# Altium footprint library Base.PcbLib: 12 footprints
Each footprint in its own frame and in the unit in brackets; x right, y up, seen from the top. Pads: shape width x height; smd on the part's side, far side on the other; paste and mask are expansions set on the pad; w line width, h text height; cw(c..) or ccw(c..) is an arc to the next point about the centre after c.
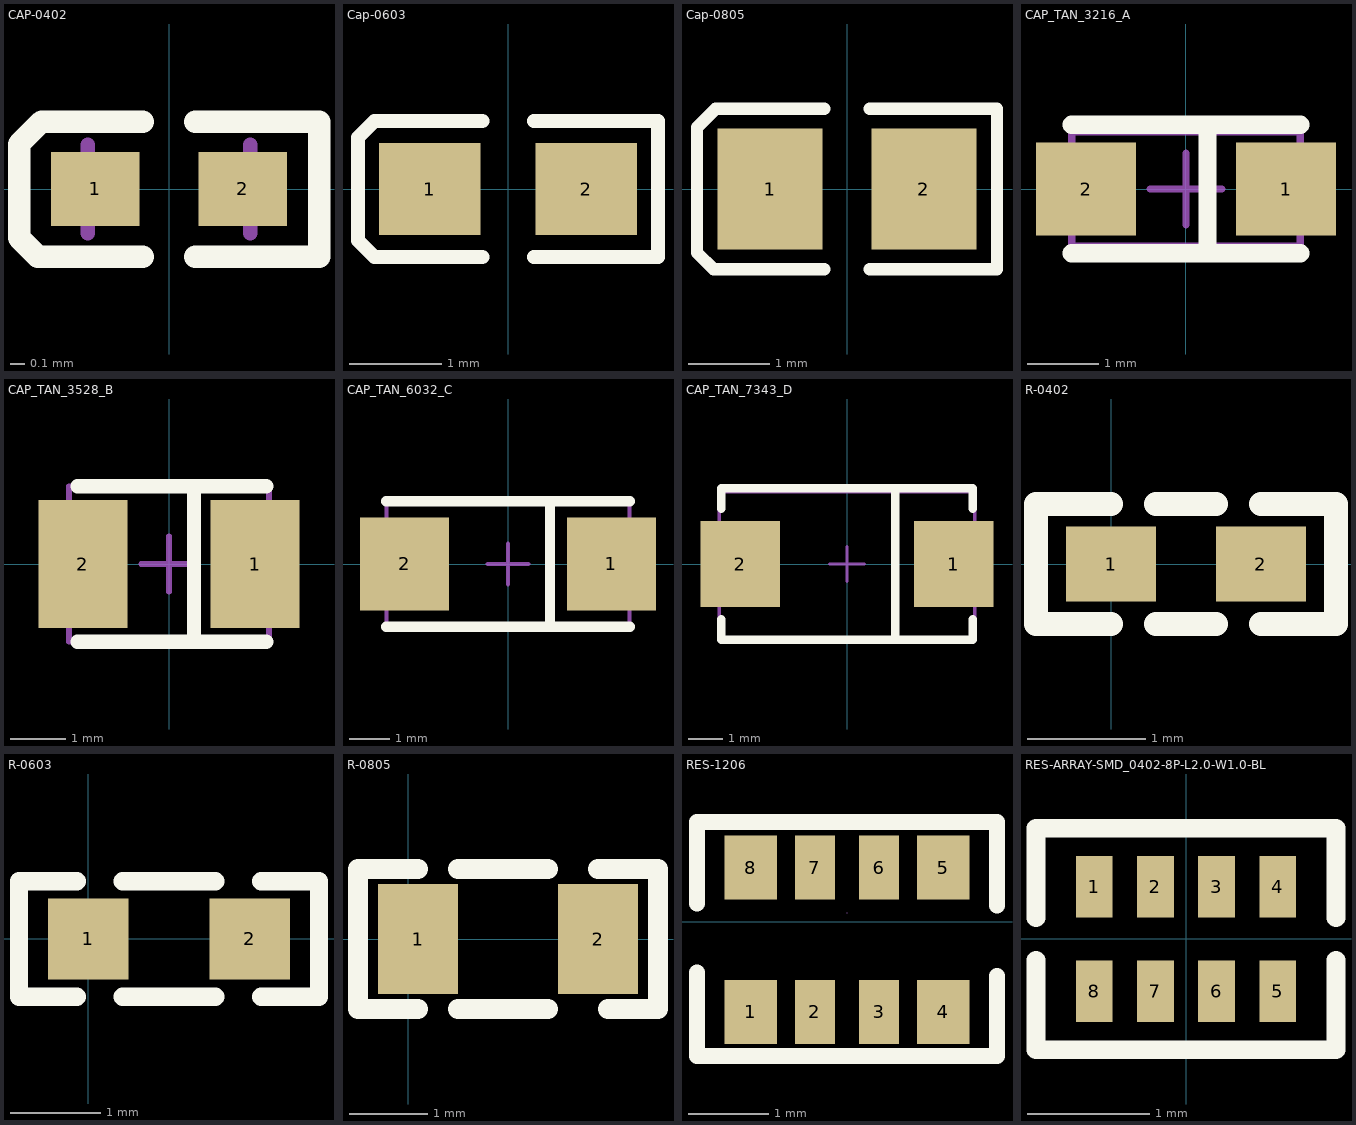
[diagram p0: the footprints below, top view; thin cyan lines are the x and y axes]

## CAP-0402 [mm]
height 1.3
pads (2):
  rect 0.6x0.5 smd: 1(-0.5,0) 2(0.5,0)
Top Overlay:
  lines w0.152: -0.178,-0.457 -0.889,-0.457 -1.016,-0.33 -1.016,0.305 -0.864,0.457 -0.178,0.457 ; 0.178,-0.457 1.016,-0.457 1.016,0.457 0.178,0.457
Mechanical 13:
  lines w0.1: -0.55,-0.3 -0.55,0.3 ; 0.55,-0.3 0.55,0.3
3D body "CAPC1005(0402).STEP": height 0.5, standoff 0, extent -0.5,-0.25 0.5,0.25

## Cap-0603 [mm]
height 0.6
pads (2):
  rect 1.1x1 smd: 1(-0.85,0) 2(0.85,0)
Top Overlay:
  lines w0.152: -0.279,-0.737 -1.448,-0.737 -1.626,-0.559 -1.626,0.559 -1.448,0.737 -0.279,0.737 ; 0.279,-0.737 1.626,-0.737 1.626,0.737 0.279,0.737
3D body "CAPC1608(0603).STEP": height 0.6, standoff 0, extent -0.8,-0.4 0.8,0.4

## Cap-0805 [mm]
height 1
pads (2):
  rect 1.3x1.5 smd: 1(-0.95,0) 2(0.95,0)
Top Overlay:
  lines w0.152: -0.279,-0.991 -1.651,-0.991 -1.854,-0.787 -1.854,0.762 -1.626,0.991 -0.279,0.991 ; 0.279,-0.991 1.854,-0.991 1.854,0.991 0.279,0.991
3D body "CAPC2012(0805).STEP": height 0.95, standoff 0, extent -1,-0.6 1,0.6

## CAP_TAN_3216_A [mm]
pads (2):
  rect 1.4x1.3 smd: 1(1.4,0) 2(-1.4,0)
Top Overlay:
  lines w0.254: -1.6,-0.9 1.6,-0.9 ; -1.6,0.9 1.6,0.9 ; 0.3,-0.9 0.3,0.9
Mechanical 15:
  lines w0.1: -0.5,0 0.5,0 ; 0,-0.5 0,0.5 ; -1.6,-0.8 1.6,-0.8 1.6,0.8 -1.6,0.8 -1.6,-0.8
3D body "CAP-A.STEP": height 1.6, standoff 0, extent -1.6,-0.8 1.6,0.8

## CAP_TAN_3528_B [mm]
pads (2):
  rect 1.6x2.3 smd: 1(1.55,0) 2(-1.55,0)
Top Overlay:
  lines w0.254: -1.65,-1.4 1.75,-1.4 ; -1.65,1.4 1.75,1.4 ; 0.45,-1.4 0.45,1.4
Mechanical 15:
  lines w0.1: -0.5,0 0.5,0 ; 0,-0.5 0,0.5 ; -1.8,-1.4 -1.8,1.4 1.8,1.4 1.8,-1.4 -1.8,-1.4
3D body "CAP-B.STEP": height 1.9, standoff 0, extent -1.75,-1.4 1.75,1.4

## CAP_TAN_6032_C [mm]
pads (2):
  rect 2.2x2.3 smd: 1(2.55,0) 2(-2.55,0)
Top Overlay:
  lines w0.254: -3,-1.55 3,-1.55 ; -3,1.55 3,1.55 ; 1.036,-1.55 1.036,1.55
Mechanical 15:
  lines w0.1: -0.5,0 0.5,0 ; 0,-0.5 0,0.5 ; -3,-1.6 3,-1.6 3,1.6 -3,1.6 -3,-1.6
3D body "CAP-C.STEP": height 2.5, standoff 0, extent -3,-1.6 3,1.6

## CAP_TAN_7343_D [mm]
pads (2):
  rect 2.3x2.5 smd: 1(3.1,0) 2(-3.1,0)
Top Overlay:
  lines w0.254: -3.65,-1.6 -3.65,-2.2 3.65,-2.2 3.65,-1.6 ; -3.65,1.6 -3.65,2.2 3.65,2.2 3.65,1.6 ; 1.4,-2.2 1.4,2.2
Mechanical 15:
  lines w0.1: -0.5,0 0.5,0 ; 0,-0.5 0,0.5 ; -3.7,-2.2 -3.7,2.1 3.7,2.1 3.7,-2.2 -3.7,-2.2
3D body "CAP-D.STEP": height 2.8, standoff 0, extent -3.65,-2.2 3.65,2.1

## R-0402 [mil] "贴片电阻"
pads (2):
  rect 30x25 smd: 1(0,0) 2(50,0)
Top Overlay:
  lines w8: 0,-20 -25,-20 -25,20 -15,20 0,20 ; 15,-20 35,-20 ; 15,20 35,20 ; 50,-20 75,-20 75,20 50,20
3D body "ferrite_bead_0402.STEP": height 19.68, standoff 0, extent 5.32,-9.84 44.68,9.84

## R-0603 [mil] "贴片电阻"
pads (2):
  rect 35x35 smd: 1(0,0) 2(70,0)
Top Overlay:
  lines w8: -5,-25 -30,-25 -30,25 -5,25 ; 15,-25 55,-25 ; 15,25 55,25 ; 75,-25 100,-25 100,25 75,25
3D body "ferrite_bead_0603.STEP": height 31.5, standoff 0, extent 3.5,-15.75 66.5,15.75

## R-0805 [mil] "贴片电阻"
pads (2):
  rect 40x55 smd: 1(5,0) 2(95,0)
Top Overlay:
  lines w10: 5,-35 -25,-35 -25,35 5,35 ; 25,-35 70,-35 ; 25,35 70,35 ; 95,35 125,35 125,-35 100,-35
3D body "ferrite_bead_0805.STEP": height 35.43, standoff 0, extent 8.13,-23.62 86.87,23.62

## RES-1206 [mm] "网络排阻"
pads (8):
  rect 0.65x0.8 smd: 1(29.091,-1.128) 4(31.491,-1.128) 5(31.491,0.672) 8(29.091,0.672)
  rect 0.5x0.8 smd: 2(29.891,-1.128) 3(30.691,-1.128) 6(30.691,0.672) 7(29.891,0.672)
Top Overlay:
  lines w0.2: 28.421,-0.638 28.421,-1.678 32.161,-1.678 32.161,-0.678 ; 28.421,0.222 28.421,1.242 32.161,1.242 32.161,0.202
Mechanical 15:
  lines w0.003: 30.291,0.108 30.291,0.108

## RES-ARRAY-SMD_0402-8P-L2.0-W1.0-BL [mm] "4.7K的四口排阻"
pads (8):
  rect 0.3x0.505 smd: 1(-0.75,0.427) 2(-0.25,0.427) 3(0.25,0.427) 4(0.75,0.427) 5(0.75,-0.428) 6(0.25,-0.428) 7(-0.25,-0.428) 8(-0.75,-0.428)
Top Overlay:
  lines w0.152: -1.229,-0.175 -1.229,-0.909 1.229,-0.909 1.229,-0.175 ; -1.229,0.175 -1.229,0.909 1.229,0.909 1.229,0.175